# EAGLE library part M3SWA2-34DR+ (library My_Library_RADAR)
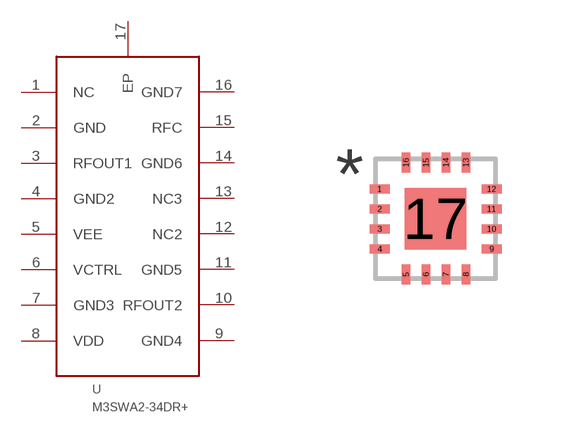
[diagram p6: symbol with the pads of 16_QFN; footprint 16_QFN]

Designator prefix -

## M3SWA2-34DR+  [16_QFN]
1  NC
2  GND
3  RFOUT1
4  GND2
5  VEE
6  VCTRL
7  GND3
8  VDD
9  GND4
10  RFOUT2
11  GND5
12  NC2
13  NC3
14  GND6
15  RFC
16  GND7
17  EP

## Footprint 16_QFN (pad centres in mm)
smd 0.5 x 0.22: 1 -1.4,0.74; 2 -1.4,0.24; 3 -1.4,-0.26; 4 -1.4,-0.76; 9 1.4,-0.76; 10 1.4,-0.26; 11 1.4,0.24; 12 1.4,0.74
smd 0.22 x 0.5: 5 -0.74,-1.4; 6 -0.24,-1.4; 7 0.26,-1.4; 8 0.76,-1.4; 13 0.76,1.4; 14 0.26,1.4; 15 -0.24,1.4; 16 -0.74,1.4
smd 1.54 x 1.54: 17 0,0